# Altium footprint library LARS_409_CONNECTORS.PCBLIB: 109 footprints (part 4 of 7)
Each footprint in its own frame and in the unit in brackets; x right, y up, seen from the top. Pads: shape width x height; smd on the part's side, far side on the other; paste and mask are expansions set on the pad; w line width, h text height; cw(c..) or ccw(c..) is an arc to the next point about the centre after c.
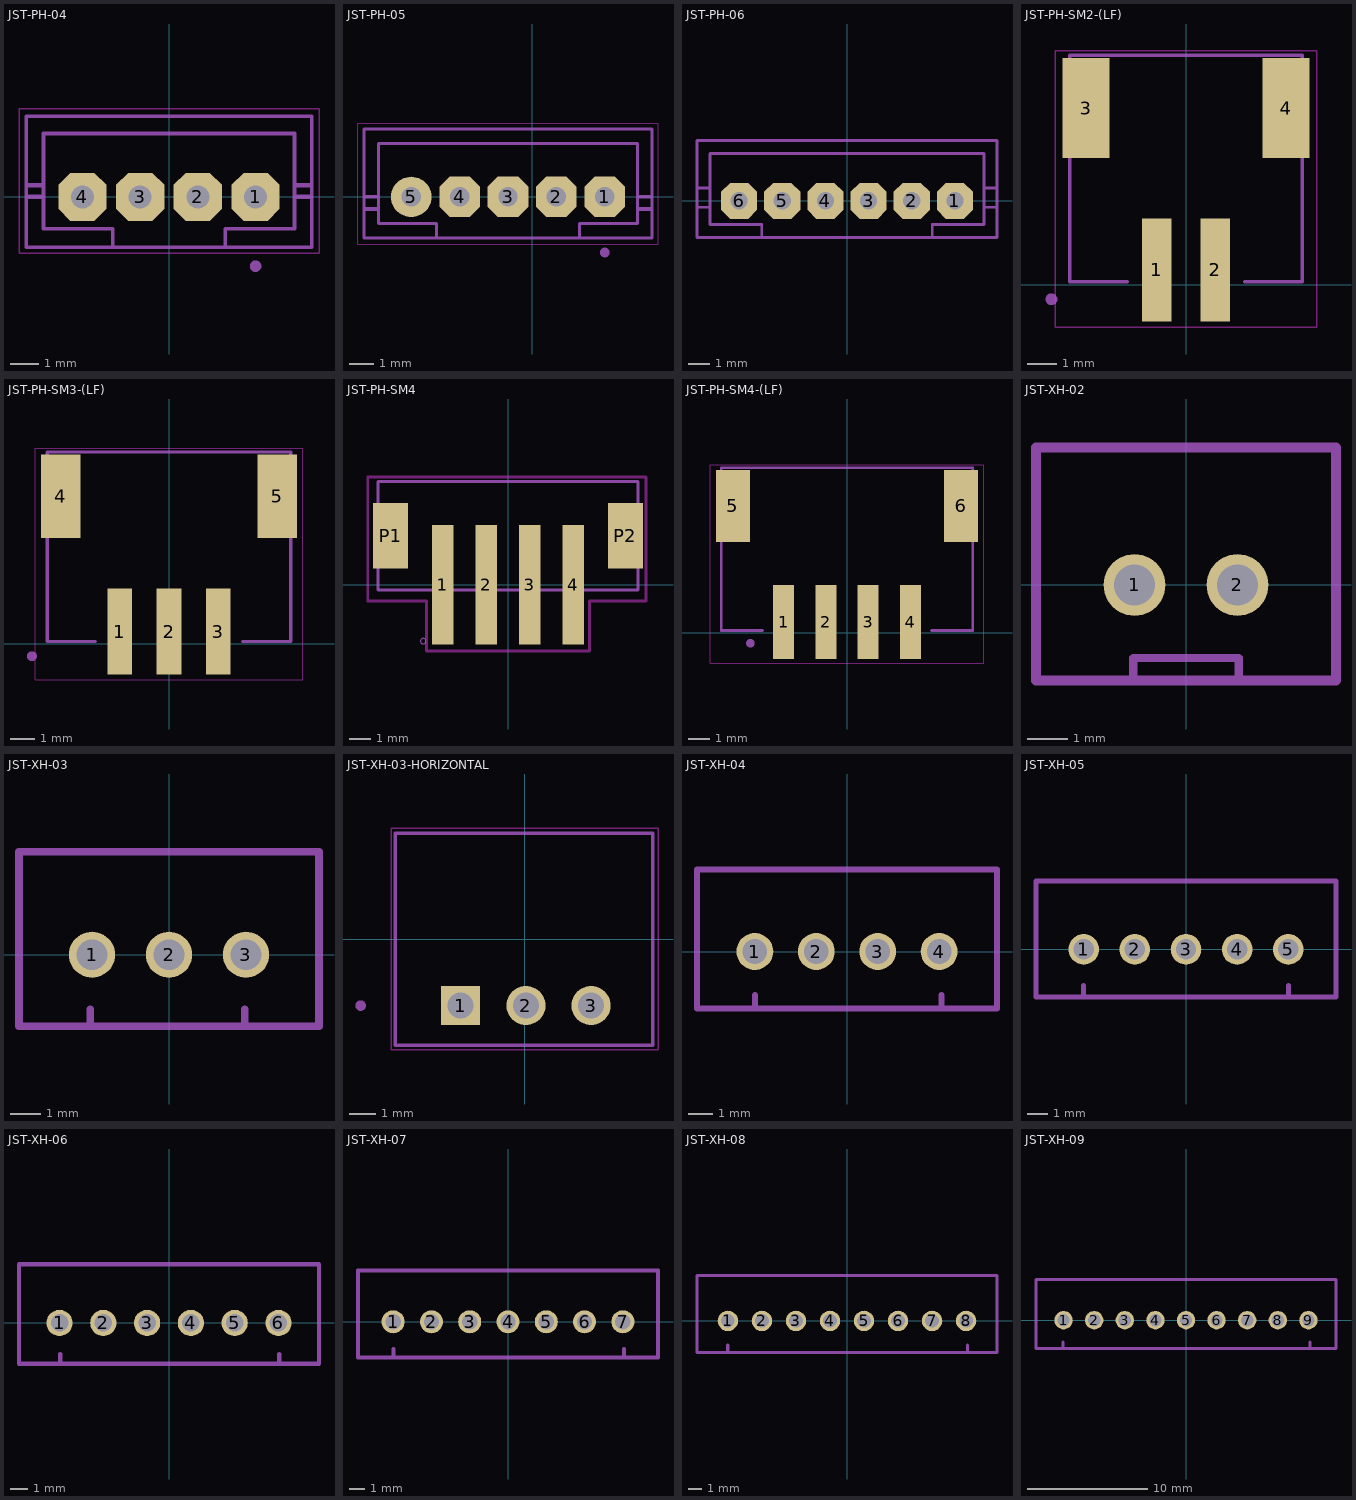
[diagram p3: the footprints below, top view; thin cyan lines are the x and y axes]

## JST-PH-04 [mil]
pads (4):
  oct 66x66 / inner round 60.98 / far side oct 66x66 hole 31.5: 1(118.11,0) 2(39.37,0) 3(-39.37,0) 4(-118.11,0)
Top keep-out:
  lines w1.97: -204.72,-76.77 -204.72,120.08 204.72,120.08 204.72,-76.77 -204.72,-76.77
tDocu:
  circle w7.87: c118.11,-94.49 r3.94
  lines w5: -194.88,-68.9 -194.88,110.24 194.88,110.24 194.88,-68.9 -194.88,-68.9
tPlace:
  circle w7.87: c118.11,-94.49 r3.94
  lines w5: -76.77,-66.93 -76.77,-43.31 -171.26,-43.31 -171.26,86.61 171.26,86.61 171.26,-43.31 76.77,-43.31 76.77,-66.93 ; -194.88,-68.9 194.88,-68.9 194.88,110.24 -194.88,110.24 -194.88,-68.9
  lines w6: -192.91,0 -173.23,0 ; -192.91,15.75 -173.23,15.75 ; 173.23,0 192.91,0 ; 173.23,15.75 192.91,15.75

## JST-PH-05 [mil]
pads (5):
  oct 66x66 / inner round 60.98 / far side oct 66x66 hole 31.5: 1(118.11,0) 2(39.37,0) 3(-39.37,0) 4(-118.11,0)
  round 66 hole 31.5: 5(-196.85,0)
Top keep-out:
  lines w1.97: -283.46,-76.77 204.72,-76.77 204.72,120.08 -283.46,120.08 -283.46,-76.77
tDocu:
  circle w7.87: c118.11,-90.55 r3.94
  lines w5: -273.62,-66.93 194.88,-66.93 194.88,110.24 -273.62,110.24 -273.62,-66.93
tPlace:
  circle w7.87: c118.11,-90.55 r3.94
  lines w5: -155.51,-66.93 -155.51,-43.31 -250,-43.31 -250,86.61 171.26,86.61 171.26,-43.31 76.77,-43.31 76.77,-66.93 ; -155.51,-66.93 -273.62,-66.93 -273.62,110.24 194.88,110.24 194.88,-66.93 76.77,-66.93 ; -155.51,-66.93 76.77,-66.93
  lines w6: -271.65,-19.69 -251.97,-19.69 ; -271.65,0 -251.97,0 ; 173.23,-19.69 192.91,-19.69 ; 173.23,0 192.91,0

## JST-PH-06 [mil]
pads (6):
  oct 66x66 / inner round 60.98 / far side oct 66x66 hole 31.5: 1(196.85,0) 2(118.11,0) 3(39.37,0) 4(-39.37,0) 5(-118.11,0) 6(-196.85,0)
tPlace:
  lines w5: -273.62,-11.81 -250,-11.81 ; -273.62,-11.81 -273.62,-66.93 -155.51,-66.93 ; -273.62,-11.81 -273.62,23.62 ; -273.62,23.62 -250,23.62 ; -273.62,23.62 -273.62,110.24 273.62,110.24 273.62,23.62 ; -250,-11.81 -250,-43.31 -155.51,-43.31 -155.51,-66.93 ; -250,-11.81 -250,23.62 ; -250,23.62 -250,86.61 250,86.61 250,23.62 ; -155.51,-66.93 155.51,-66.93 ; 155.51,-66.93 155.51,-43.31 250,-43.31 250,-11.81 ; 155.51,-66.93 273.62,-66.93 273.62,-11.81 ; 250,-11.81 273.62,-11.81 ; 250,-11.81 250,23.62 ; 250,23.62 273.62,23.62 ; 273.62,-11.81 273.62,23.62

## JST-PH-SM2-(LF) [mm]
pads (4):
  rect 1x3.5 smd: 1(-1,0.5) 2(1,0.5)
  rect 1.6x3.4 smd: 3(-3.4,6) 4(3.4,6)
Top keep-out:
  lines w0.05: -4.443,-1.45 4.443,-1.45 4.443,7.95 -4.443,7.95 -4.443,-1.45
tDocu:
  circle w0.2: c-4.575,-0.5 r0.1
tPlace:
  circle w0.2: c-4.575,-0.5 r0.1
  lines w0.127: -2,0.1 -3.95,0.1 -3.95,7.8 3.95,7.8 3.95,0.1 2,0.1
3D body "x2016wrs-02-9tsw.stp": height 5.56, standoff 0.03, extent -3.936,-0.86 4.064,7.718

## JST-PH-SM3-(LF) [mm]
pads (5):
  rect 1x3.5 smd: 1(-2,0.5) 2(0,0.5) 3(2,0.5)
  rect 1.6x3.4 smd: 4(-4.4,6) 5(4.4,6)
Top keep-out:
  lines w0.05: -5.443,-1.45 -5.443,7.95 5.443,7.95 5.443,-1.45 -5.443,-1.45
tDocu:
  circle w0.2: c-5.575,-0.5 r0.1
tPlace:
  circle w0.2: c-5.575,-0.5 r0.1
  lines w0.127: -3,0.1 -4.95,0.1 -4.95,7.8 4.95,7.8 4.95,0.1 3,0.1
3D body "x2016wrs-03-9tsw.stp": height 5.54, standoff 0, extent -5.047,-0.86 4.953,7.718

## JST-PH-SM4 [mm]
pads (6):
  rect 1x5.5 smd: 1(-3,0) 2(-1,0) 3(1,0) 4(3,0)
  rect 1.6x3 smd: P1(-5.4,2.25) P2(5.4,2.25)
Top keep-out:
  lines w0.127: -6.45,-0.75 -6.45,4.95 6.35,4.95 6.35,-0.75 3.75,-0.75 3.75,-3.05 -3.75,-3.05 -3.75,-0.75 -6.45,-0.75
tDocu:
  lines w0.127: -5.975,4.75 -5.975,-0.25 5.975,-0.25 5.975,4.75
tPlace:
  circle w0: c-3.9,-2.6 r0.127
  lines w0.127: -5.975,4.75 5.975,4.75

## JST-PH-SM4-(LF) [mm]
pads (6):
  rect 1x3.5 smd: 1(-3,0.5) 2(-1,0.5) 3(1,0.5) 4(3,0.5)
  rect 1.6x3.4 smd: 5(-5.4,6) 6(5.4,6)
Top keep-out:
  lines w0.05: -6.475,-1.45 -6.475,7.95 6.475,7.95 6.475,-1.45 -6.475,-1.45
tDocu:
  circle w0.2: c-4.575,-0.5 r0.1
tPlace:
  circle w0.2: c-4.575,-0.5 r0.1
  lines w0.127: -4,0.1 -5.95,0.1 -5.95,7.8 5.95,7.8 5.95,0.1 4,0.1
3D body "x2016wrs-04-9tsw.stp": height 5.54, standoff 0, extent -6,-0.831 6,7.747

## JST-XH-02 [mil]
pads (2):
  round 60 hole 40: 1(-50,0) 2(50,0)
tDocu:
  text "1" at -112.89,-58.56 h62
tPlace:
  lines w7.87: -51.18,-90.55 -51.18,-70.87 51.18,-70.87 51.18,-90.55
  lines w10: -145.67,-92.82 145.67,-92.82 145.67,133.56 -145.67,133.56 -145.67,-92.82

## JST-XH-03 [mil]
pads (3):
  round 60 hole 40: 1(-100,0) 2(0,0) 3(100,0)
tDocu:
  text "1" at -164.07,-58.56 h62
tPlace:
  lines w10: -102.36,-90.55 -102.36,-70.87 ; 98.43,-90.55 98.43,-70.87 ; -194.88,-92.82 194.88,-92.82 194.88,133.56 -194.88,133.56 -194.88,-92.82

## JST-XH-03-HORIZONTAL [mm]
pads (3):
  rect 1.5x1.5 / inner round 1.386 / far side rect 1.5x1.5 hole 1: 1(-2.46,-2.54)
  round 1.5 hole 1: 2(0.04,-2.54) 3(2.54,-2.54)
Top keep-out:
  lines w0.05: -5.11,-4.24 5.1,-4.24 5.1,4.26 -5.11,4.26 -5.11,-4.24
tDocu:
  circle w0.2: c-6.29,-2.54 r0.1
  lines w0.127: -4.96,-4.06 -4.96,4.06 4.9,4.06 4.9,-4.06 -4.96,-4.06
tPlace:
  circle w0.2: c-6.29,-2.54 r0.1
  lines w0.127: -4.96,-4.06 -4.96,4.06 4.9,4.06 4.9,-4.06 -4.96,-4.06

## JST-XH-04 [mil]
pads (4):
  round 60 hole 40: 1(-150,0) 2(-50,0) 3(50,0) 4(150,0)
tDocu:
  text "1" at -215.26,-58.56 h62
tPlace:
  lines w10: -149.61,-90.55 -149.61,-70.87 ; 153.54,-90.55 153.54,-70.87 ; -244.09,-92.82 244.09,-92.82 244.09,133.56 -244.09,133.56 -244.09,-92.82

## JST-XH-05 [mil]
pads (5):
  round 60 hole 40: 1(-200,0) 2(-100,0) 3(0,0) 4(100,0) 5(200,0)
tDocu:
  text "1" at -262.5,-62.5 h62
tPlace:
  lines w10: -200.79,-90.55 -200.79,-70.87 ; 200.79,-90.55 200.79,-70.87 ; -293.31,-92.82 293.31,-92.82 293.31,133.56 -293.31,133.56 -293.31,-92.82

## JST-XH-06 [mil]
pads (6):
  round 60 hole 40: 1(-250,0) 2(-150,0) 3(-50,0) 4(50,0) 5(150,0) 6(250,0)
tDocu:
  text "1" at -313.68,-62.5 h62
tPlace:
  lines w10: -248.03,-90.55 -248.03,-70.87 ; 251.97,-90.55 251.97,-70.87 ; -342.52,-92.82 342.52,-92.82 342.52,133.56 -342.52,133.56 -342.52,-92.82

## JST-XH-07 [mil]
pads (7):
  round 60 hole 40: 1(-300,0) 2(-200,0) 3(-100,0) 4(0,0) 5(100,0) 6(200,0) 7(300,0)
tDocu:
  text "1" at -360.93,-62.5 h62
tPlace:
  lines w10: -299.21,-90.55 -299.21,-70.87 ; 303.15,-90.55 303.15,-70.87 ; -391.73,-92.82 391.73,-92.82 391.73,133.56 -391.73,133.56 -391.73,-92.82

## JST-XH-08 [mil]
pads (8):
  round 60 hole 40: 1(-350,0) 2(-250,0) 3(-150,0) 4(-50,0) 5(50,0) 6(150,0) 7(250,0) 8(350,0)
tDocu:
  text "1" at -412.11,-62.5 h62
tPlace:
  lines w10: -350.39,-90.55 -350.39,-70.87 ; 354.33,-90.55 354.33,-70.87 ; -440.94,-92.82 440.94,-92.82 440.94,133.56 -440.94,133.56 -440.94,-92.82

## JST-XH-09 [mil]
pads (9):
  round 60 hole 40: 1(-400,0) 2(-300,0) 3(-200,0) 4(-100,0) 5(0,0) 6(100,0) 7(200,0) 8(300,0) 9(400,0)
tDocu:
  text "1" at -459.35,-62.5 h62
tPlace:
  lines w10: -401.57,-90.55 -401.57,-70.87 ; 405.51,-90.55 405.51,-70.87 ; -490.16,-92.82 490.16,-92.82 490.16,133.56 -490.16,133.56 -490.16,-92.82